# Altium footprint library CAPC1006X045.PcbLib: 3 footprints
Each footprint in its own frame and in the unit in brackets; x right, y up, seen from the top. Pads: shape width x height; smd on the part's side, far side on the other; paste and mask are expansions set on the pad; w line width, h text height; cw(c..) or ccw(c..) is an arc to the next point about the centre after c.
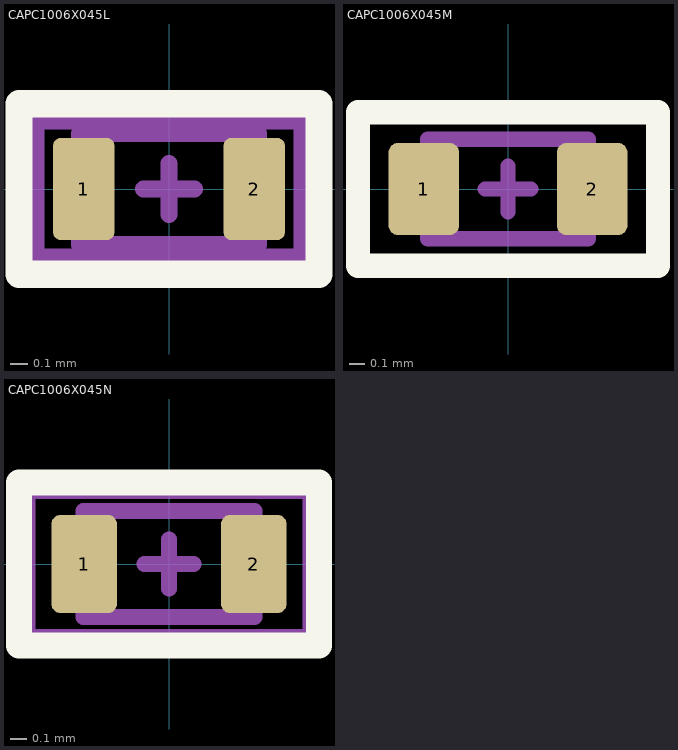
[diagram p0: the footprints below, top view; thin cyan lines are the x and y axes]

## CAPC1006X045L [mm] "Capacitors, Chip, Non-polarized"
height 0.5
pads (2):
  rrect25% 0.36x0.6 smd: 1(-0.5,0) 2(0.5,0)
Top Overlay:
  lines w0.16: -0.88,-0.5 0.88,-0.5 0.88,0.5 -0.88,0.5 -0.88,-0.5
Top Component Center:
  lines w0.1: -0.15,0 0.15,0 ; 0,-0.15 0,0.15
Top Courtyard:
  lines w0.1: -0.78,-0.4 0.78,-0.4 0.78,0.4 -0.78,0.4 -0.78,-0.4
Top Assembly:
  lines w0.1: -0.525,-0.325 0.525,-0.325 0.525,0.325 -0.525,0.325 -0.525,-0.325
  text ".Designator" at 0,0 h1
3D body "CAPC1006X045L.STEP": height 0.45, standoff 0, extent -0.525,-0.325 0.525,0.325

## CAPC1006X045M [mm] "Capacitors, Chip, Non-polarized"
height 0.5
pads (2):
  rrect25% 0.46x0.6 smd: 1(-0.55,0) 2(0.55,0)
Top Overlay:
  lines w0.16: -0.98,-0.5 0.98,-0.5 0.98,0.5 -0.98,0.5 -0.98,-0.5
Top Component Center:
  lines w0.1: -0.15,0 0.15,0 ; 0,-0.15 0,0.15
Top Courtyard:
  lines w0.1: -0.98,-0.5 0.98,-0.5 0.98,0.5 -0.98,0.5 -0.98,-0.5
Top Assembly:
  lines w0.1: -0.525,-0.325 0.525,-0.325 0.525,0.325 -0.525,0.325 -0.525,-0.325
  text ".Designator" at 0,0 h1
3D body "CAPC1006X045M.STEP": height 0.45, standoff 0, extent -0.525,-0.325 0.525,0.325

## CAPC1006X045N [mm] "Capacitors, Chip, Non-polarized"
height 0.5
pads (2):
  rrect25% 0.4x0.6 smd: 1(-0.52,0) 2(0.52,0)
Top Overlay:
  lines w0.16: -0.92,-0.5 0.92,-0.5 0.92,0.5 -0.92,0.5 -0.92,-0.5
Top Component Center:
  lines w0.1: -0.15,0 0.15,0 ; 0,-0.15 0,0.15
Top Courtyard:
  lines w0.1: -0.87,-0.45 0.87,-0.45 0.87,0.45 -0.87,0.45 -0.87,-0.45
Top Assembly:
  lines w0.1: -0.525,-0.325 0.525,-0.325 0.525,0.325 -0.525,0.325 -0.525,-0.325
  text ".Designator" at 0,0 h1
3D body "CAPC1006X045N.STEP": height 0.45, standoff 0, extent -0.525,-0.325 0.525,0.325